# Altium footprint library 22284053.PcbLib: 6 footprints
Each footprint in its own frame and in the unit in brackets; x right, y up, seen from the top. Pads: shape width x height; smd on the part's side, far side on the other; paste and mask are expansions set on the pad; w line width, h text height; cw(c..) or ccw(c..) is an arc to the next point about the centre after c.
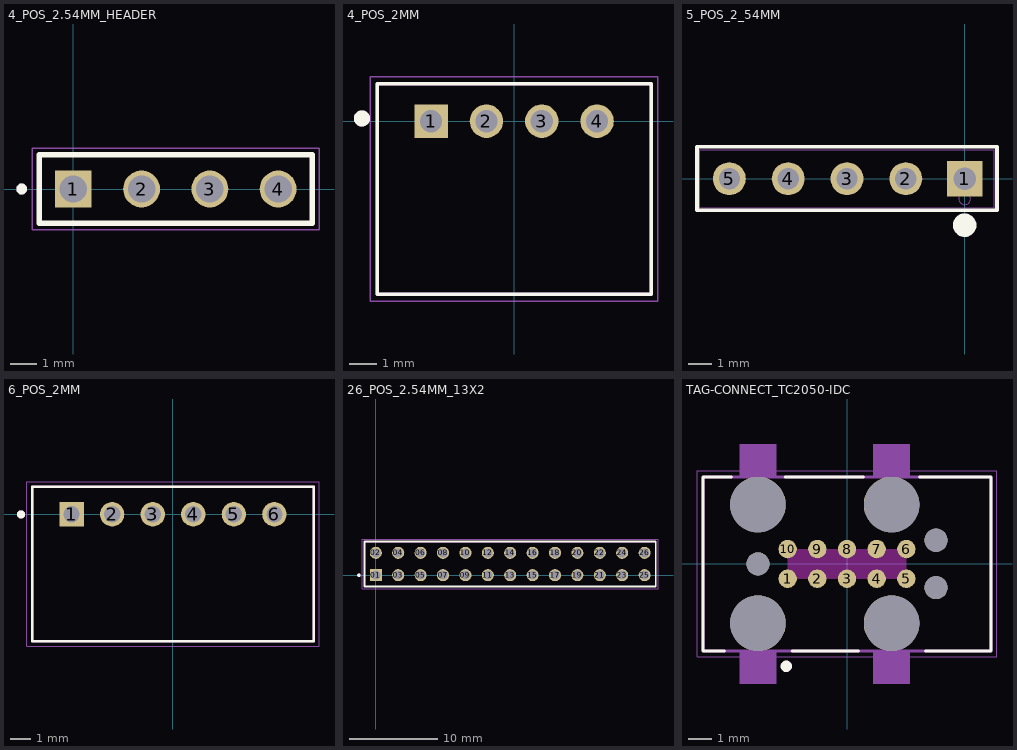
[diagram p0: the footprints below, top view; thin cyan lines are the x and y axes]

## 4_POS_2.54MM_HEADER [mm]
pads (4):
  rect 1.37x1.37 hole 1.02: 1(0,0)
  round 1.37 hole 1.02: 2(2.54,0) 3(5.08,0) 4(7.62,0)
Top Overlay:
  circle w0.2: c-1.92,0 r0.1
  lines w0.2: -1.27,-1.27 8.89,-1.27 8.89,1.27 -1.27,1.27 -1.27,-1.27
Mechanical 13:
  circle w0.2: c-1.92,0 r0.1
  lines w0.1: -1.27,-1.27 8.89,-1.27 8.89,1.27 -1.27,1.27 -1.27,-1.27
Mechanical 15:
  lines w0.05: -1.52,-1.52 9.14,-1.52 9.14,1.52 -1.52,1.52 -1.52,-1.52
3D body "TSW-104-24-G-S.stp": height 9.32, standoff -2.87, extent -1.397,-1.27 8.89,1.27

## 4_POS_2MM [mm]
pads (4):
  rect 1.208x1.208 hole 0.8: 1(-3,0)
  round 1.208 hole 0.8: 2(-1,0) 3(1,0) 4(3,0)
Top Overlay:
  circle w0.3: c-5.5,0.1 r0.141
  lines w0.127: -4.95,-6.25 -4.95,1.35 4.95,1.35 4.95,-6.25 -4.95,-6.25
Mechanical 13:
  circle w0.3: c-5.5,0.1 r0.141
  lines w0.127: -4.95,-6.25 4.95,-6.25 4.95,1.35 -4.95,1.35 -4.95,-6.25
Mechanical 15:
  lines w0.05: -5.2,-6.5 5.2,-6.5 5.2,1.6 -5.2,1.6 -5.2,-6.5
3D body "S4B-PH-K-S(LF)(SN)--3DModel-STEP-56544.STEP": height 4.8, standoff -3.38, extent -4.957,-6.254 4.943,1.346

## 5_POS_2_54MM [mil]
pads (5):
  rect 60x60 hole 38 mask+0: 1(0,0)
  round 56 hole 36 mask+0: 2(-100,0) 3(-200,0) 4(-300,0) 5(-400,0)
Top Overlay:
  circle w20: c0,-79 r10
  lines w6: -455,-54 -455,54 55,54 55,-54 -455,-54
Mechanical 13:
  circle w0: c0,-34 r10
  lines w1: -450,-49 -450,49 50,49 50,-49 -450,-49
3D body "22-28-4053_MOL.step": height 451, standoff -199, extent -450,-50 50,50

## 6_POS_2MM [mm]
pads (6):
  rect 1.2x1.2 hole 0.8: 1(-5,0)
  round 1.2 hole 0.8: 2(-3,0) 3(-1,0) 4(1,0) 5(3,0) 6(5,0)
Top Overlay:
  circle w0.2: c-7.493,0 r0.1
  lines w0.127: -6.95,-6.25 -6.95,1.35 6.95,1.35 6.95,-6.25 -6.95,-6.25
Mechanical 13:
  circle w0.2: c-7.493,0 r0.1
  lines w0.127: -6.95,-6.25 -6.95,1.35 6.95,1.35 6.95,-6.25 -6.95,-6.25
Mechanical 15:
  lines w0.05: -7.2,-6.5 7.2,-6.5 7.2,1.6 -7.2,1.6 -7.2,-6.5
3D body "S6B-PH-K-S-LF--SN---3DModel-STEP-56544.STEP": height 4.8, standoff -3.38, extent -6.95,-6.213 6.95,1.387

## 26_POS_2.54MM_13X2 [mm]
pads (26):
  rect 1.37x1.37 hole 1.02: 01(0,0)
  round 1.37 hole 1.02: 02(0,2.54) 03(2.54,0) 04(2.54,2.54) 05(5.08,0) 06(5.08,2.54) 07(7.62,0) 08(7.62,2.54) 09(10.16,0) 10(10.16,2.54) 11(12.7,0) 12(12.7,2.54) 13(15.24,0) 14(15.24,2.54) 15(17.78,0) 16(17.78,2.54) 17(20.32,0) 18(20.32,2.54) 19(22.86,0) 20(22.86,2.54) 21(25.4,0) 22(25.4,2.54) 23(27.94,0) 24(27.94,2.54) 25(30.48,0) 26(30.48,2.54)
Top Overlay:
  circle w0.2: c-1.92,0 r0.1
  lines w0.2: -1.27,-1.27 -1.27,3.81 31.75,3.81 31.75,-1.27 -1.27,-1.27
Mechanical 13:
  circle w0.2: c-1.92,0 r0.1
  lines w0.1: -1.27,-1.27 -1.27,3.81 31.75,3.81 31.75,-1.27 -1.27,-1.27
Mechanical 15:
  lines w0.05: -1.52,-1.52 -1.52,4.06 32,4.06 32,-1.52 -1.52,-1.52
3D body "TSW-113-23-G-D-LL.stp": height 8.38, standoff -2.92, extent -1.27,-1.27 31.75,3.81

## TAG-CONNECT_TC2050-IDC [mil]
pads (17):
  round 31 smd paste-39.37: 1(-100,-25) 2(-50,-25) 3(0,-25) 4(50,-25) 5(100,-25) 6(100,25) 7(50,25) 8(0,25) 9(-50,25) 10(-100,25)
  round 93.5 hole 93.5 unplated: ""(-150,-100) ""(-150,100) ""(75,-100) ""(75,100)
  round 39 hole 39 unplated: ""(-150,0) ""(150,-39.96) ""(150,39.96)
Top Overlay:
  circle w9.45: c-102.36,-172.49 r4.72
  lines w5: -206.69,-146.77 -242.91,-146.77 -242.91,146.77 -194.88,146.77 ; -104.33,146.77 27.56,146.77 ; -92.52,-146.77 19.68,-146.77 ; 122.05,146.77 242.91,146.77 242.91,-146.77 131.89,-146.77
Keep-Out Layer:
  drawing of 17 lines, arcs and shapes, not listed
Mechanical 13:
  circle w9.45: c-102.16,-172.49 r4.72
  lines w5: -242.91,-146.77 242.91,-146.77 242.91,146.77 -242.91,146.77 -242.91,-146.77
Mechanical 15:
  lines w1.97: -252.76,-156.61 252.76,-156.61 252.76,156.61 -252.76,156.61 -252.76,-156.61
Mechanical 16:
  region: 105.49,145.91 44.58,145.91 44.58,201.65 105.49,201.65
  region: -119.51,145.93 -180.82,145.93 -180.82,201.65 -119.51,201.65
  region: -119.51,-201.91 -180.72,-201.91 -180.72,-145.67 -119.51,-145.67
  region: 105.49,-201.98 44.58,-201.98 44.58,-145.67 105.49,-145.67
3D body "TC2050-IDC--3DModel-STEP-1.STEP": height 8011.5, standoff -36, extent -375,-300 242.9,300